# EAGLE library part USB-C (library pcie2usbc)
Usb Type-c, Ra Rcpt, Pcb Mount,
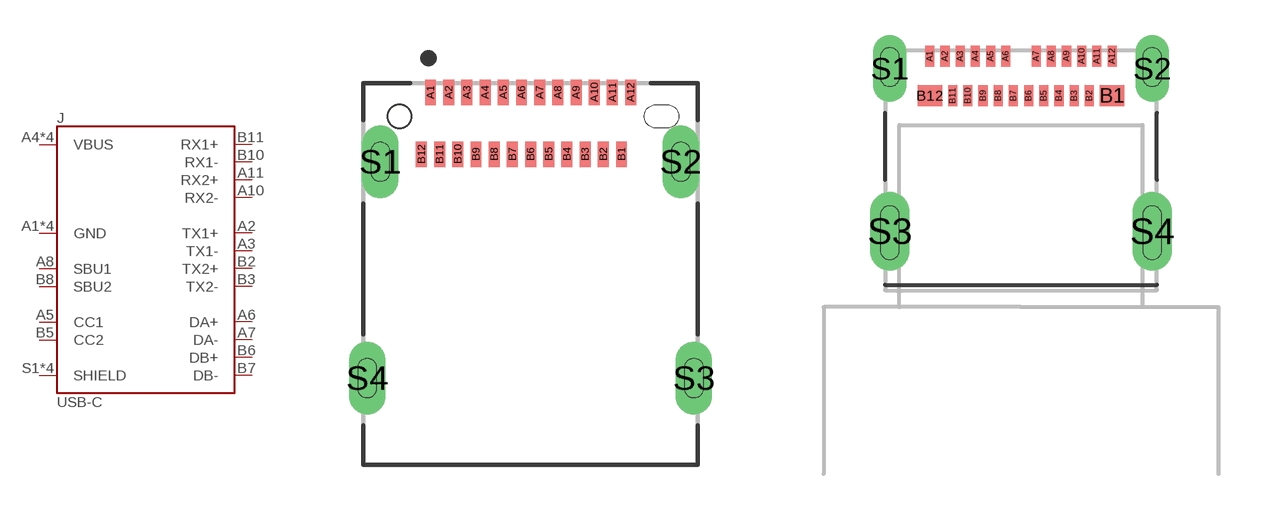
[diagram p1: symbol with the pads of AMPHENOL_12401610E4#2A; footprints AMPHENOL_12401610E4#2A, MOLEX_105450-0101]

Designator prefix J

## USB-C-AMP (DESCRIPTION: Conn USB Type C Surface Mount Receptacle; MFG: Amphenol ICC; MPN: 12401610E4#2A; PN-DK: 12401610E4#2ACT-ND)  [AMPHENOL_12401610E4#2A]
A1  GND  pas
A2  TX1+  pas
A3  TX1-  pas
A4  VBUS  pas
A5  CC1  pas
A6  DA+  pas
A7  DA-  pas
A8  SBU1  pas
A9  VBUS  pas
A10  RX2-  pas
A11  RX2+  pas
A12  GND  pas
B1  GND  pas
B2  TX2+  pas
B3  TX2-  pas
B4  VBUS  pas
B5  CC2  pas
B6  DB+  pas
B7  DB-  pas
B8  SBU2  pas
B9  VBUS  pas
B10  RX1-  pas
B11  RX1+  pas
B12  GND  pas
S1  SHIELD  pas
S2  SHIELD  pas
S3  SHIELD  pas
S4  SHIELD  pas

## USB-C-MLX (MFG: Molex; MPN: 1054500101; PN-DK: WM12856CT-ND)  [MOLEX_105450-0101]
Pads as for AMPHENOL_12401610E4#2A

## Footprint AMPHENOL_12401610E4#2A (pad centres in mm)
smd 0.3 x 0.7: A1 -2.75,0.66; A2 -2.25,0.66; A3 -1.75,0.66; A4 -1.25,0.66; A5 -0.75,0.66; A6 -0.25,0.66; A7 0.25,0.66; A8 0.75,0.66; A9 1.25,0.66; A10 1.75,0.66; A11 2.25,0.66; A12 2.75,0.66; B1 2.5,-1.04; B2 2,-1.04; B3 1.5,-1.04; B4 1,-1.04; B5 0.5,-1.04; B6 0,-1.04; B7 -0.5,-1.04; B8 -1,-1.04; B9 -1.5,-1.04; B10 -2,-1.04; B11 -2.5,-1.04; B12 -3,-1.04
drill 0.5 pad 0.8 long: S1 -4.13,-1.25; S2 4.13,-1.25; S3 4.49,-7.2; S4 -4.49,-7.2
hole 0.65 at -3.6,0

## Footprint MOLEX_105450-0101 (pad centres in mm)
smd 0.3 x 0.7: A1 -3,3.77; A2 -2.5,3.77; A3 -2,3.77; A4 -1.5,3.77; A5 -1,3.77; A6 -0.5,3.77; A7 0.5,3.77; A8 1,3.77; A9 1.5,3.77; A10 2,3.77; A11 2.5,3.77; A12 3,3.77; B2 2.25,2.47; B3 1.75,2.47; B4 1.25,2.47; B5 0.75,2.47; B6 0.25,2.47; B7 -0.25,2.47; B8 -0.75,2.47; B9 -1.25,2.47; B10 -1.75,2.47; B11 -2.25,2.47
smd 0.8 x 0.7: B1 3,2.47; B12 -3,2.47
drill 0.406 pad 1.1 long: S1 -4.32,3.36; S2 4.32,3.36
drill 0.406 pad 1.3 long: S3 -4.32,-2; S4 4.32,-2